# Altium schematic symbol library MD_NMPD01.SchLib: 1 symbol
Pins are listed as number, name and electrical type; pins without a type are passive.

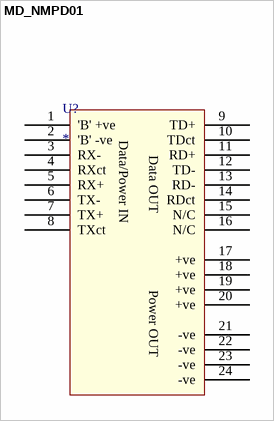
[diagram p0: symbol MD_NMPD01]

## MD_NMPD01
designator U?
pins: 1 'B' +ve, 2 'B' -ve, 3 RX-, 4 RXct, 5 RX+, 6 TX-, 7 TX+, 8 TXct, 9 TD+, 10 TDct, 11 RD+, 12 TD-, 13 RD-, 14 RDct, 15 N/C, 16 N/C, 17 +ve, 18 +ve, 19 +ve, 20 +ve, 21 -ve, 22 -ve, 23 -ve, 24 -ve
text: Data/Power IN; Data OUT; Power OUT